# Altium footprint library ARCOM_Capacitors.PcbLib: 37 footprints (part 2 of 3)
Each footprint in its own frame and in the unit in brackets; x right, y up, seen from the top. Pads: shape width x height; smd on the part's side, far side on the other; paste and mask are expansions set on the pad; w line width, h text height; cw(c..) or ccw(c..) is an arc to the next point about the centre after c.
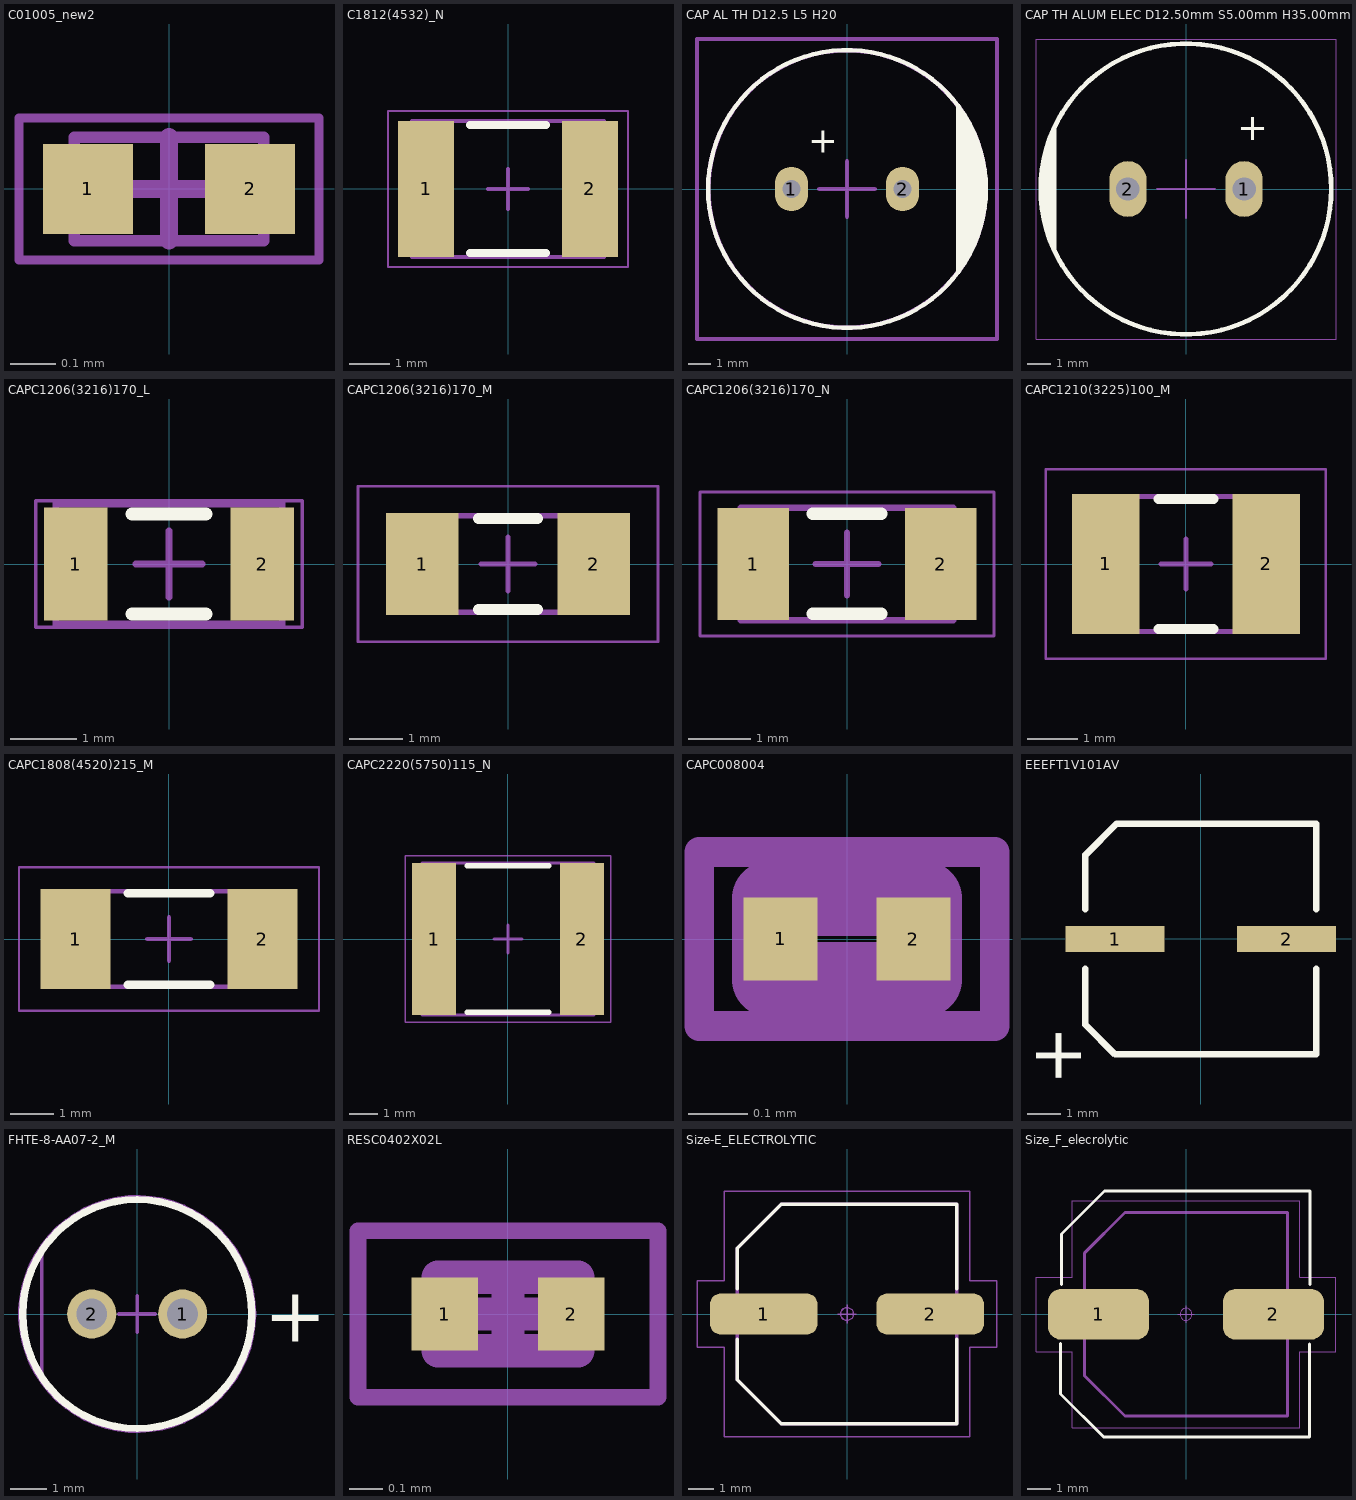
[diagram p1: the footprints below, top view; thin cyan lines are the x and y axes]

## C01005_new2 [mm] "Chip Capacitor, 2-Leads, Body 0,40x0,20mm, IPC High Density"
height 0.15
pads (2):
  rect 0.2x0.2 smd mask+0.05: 1(-0.18,0) 2(0.18,0)
Mechanical 13:
  lines w0.025: -0.21,-0.115 -0.21,0.115 0.21,0.115 0.21,-0.115 -0.21,-0.115
Mechanical 15:
  lines w0.02: -0.333,-0.157 -0.333,0.157 0.333,0.157 0.333,-0.157 -0.333,-0.157
  lines w0.04: -0.115,0 0.115,0 ; 0,-0.115 0,0.115
3D body: height 0.15, standoff 0, extent -0.11,-0.115 0.11,0.115
3D body: height 0.15, standoff 0, extent -0.21,-0.115 -0.11,0.115
3D body: height 0.15, standoff 0, extent 0.11,-0.115 0.21,0.115

## C1812(4532)_N [mm]
pads (2):
  rect 1.4x3.4 smd: 1(-2.053,-0.003) 2(2.047,-0.003)
Top Overlay:
  lines w0.2: -0.953,-1.603 0.947,-1.603 ; -0.953,1.597 0.947,1.597
Mechanical 13:
  lines w0.1: -2.403,-1.703 -2.403,1.697 2.397,1.697 2.397,-1.703 -2.403,-1.703
Mechanical 15:
  lines w0.05: -3.003,-1.953 -3.003,1.947 2.997,1.947 2.997,-1.953 -3.003,-1.953
  lines w0.1: -0.503,-0.003 0.497,-0.003 ; -0.003,-0.503 -0.003,0.497
3D body: height 2.3, standoff 0, extent -1.803,-1.703 1.797,1.697
3D body: height 2.3, standoff 0, extent -2.403,-1.703 -1.803,1.697
3D body: height 2.3, standoff 0, extent 1.797,-1.703 2.397,1.697

## CAP AL TH D12.5 L5 H20 [mm] "12.5MM Diameter, 5MM Lead Spacing Aluminium Capacitor"
height 20
pads (2):
  oval 1.5x2 hole 0.8: 1(-2.5,0) 2(2.5,0)
Top Overlay:
  circle w0.2: c0,0 r6.25
  region: 5,-3.75 5,3.75 5.75,2.5 6.25,1 6.25,0 6,-1.5 5.75,-2.5
  lines w0.2: 5,-3.75 5,3.75
  text "+" at -1.75,1.25 h2
Mechanical 13:
  circle w0.2: c0,0 r6.241
  lines w0.2: 5,-3.75 5,3.75
Mechanical 15:
  lines w0.2: -1.25,0 1.25,0 ; 0,-1.25 0,1.25 ; -6.75,-6.75 -6.75,0 -6.75,6.75 0,6.75 6.75,6.75 6.75,0 6.75,-6.75 0,-6.75 -6.75,-6.75
3D body "CAP ALTH D-12.5MM L-5.0MM H-20MM.STEP": height 20.2, standoff -3, extent -6.25,-6.245 6.25,6.246

## CAP TH ALUM ELEC D12.50mm S5.00mm H35.00mm [mm] "12.5mm Diameter 5mm Lead Spacing Aluminum Electrolytic Capacitors Radial, Can"
height 35
pads (2):
  oval 1.6x2.4 hole 1: 1(2.5,0) 2(-2.5,0)
Top Overlay:
  circle w0.2: c0,0 r6.25
  region: -5.664,-2.641 -5.809,-2.332 -6.028,-1.686 -6.176,-1.02 -6.25,-0.341 -6.25,0.341 -6.176,1.02 -6.028,1.686 -5.809,2.332 -5.664,2.641
  lines w0.2: -5.664,-2.641 cw(c0,0) -5.664,2.641 -5.664,-2.641
  text "+" at 2.2,1.7 h2
Mechanical 13:
  circle w0.1: c0,0 r6.25
  lines w0.1: -5.664,-2.641 -5.664,2.641
Mechanical 15:
  lines w0.05: -6.45,-6.45 -6.45,6.45 6.45,6.45 6.45,-6.45 -6.45,-6.45
  lines w0.1: -1.25,0 0,0 ; 0,-1.25 0,0 ; 0,1.25 0,0 ; 1.25,0 0,0
3D body "Cap TH D12.50mm H35.00mm L5.00mm.step": height 35, standoff -2.5, extent -6.257,-6.25 6.25,6.25

## CAPC1206(3216)170_L [mm] "Chip Capacitor, Body 3.2x1.6mm, Height 1.7mm, IPC High Density"
height 1.7
pads (2):
  rect 0.95x1.7 smd: 1(-1.4,0) 2(1.4,0)
Top Overlay:
  lines w0.2: -0.55,-0.75 0.55,-0.75 ; -0.55,0.75 0.55,0.75
Mechanical 13:
  lines w0.1: -1.7,-0.9 1.7,-0.9 1.7,0.9 -1.7,0.9 -1.7,-0.9
Mechanical 15:
  lines w0.05: -2,-0.95 2,-0.95 2,0.95 -2,0.95 -2,-0.95
  lines w0.1: -0.5,0 0.5,0 ; 0,-0.5 0,0.5
3D body: height 1.7, standoff 0, extent 1.2,-0.9 1.7,0.9
3D body: height 1.7, standoff 0, extent -1.7,-0.9 -1.2,0.9
3D body: height 1.7, standoff 0, extent -1.2,-0.9 1.2,0.9

## CAPC1206(3216)170_M [mm] "Chip Capacitor, Body 3.2x1.6mm, Height 1.7mm, IPC Low Density"
height 1.7
pads (2):
  rect 1.35x1.9 smd: 1(-1.6,0) 2(1.6,0)
Top Overlay:
  lines w0.2: -0.55,-0.85 0.55,-0.85 ; -0.55,0.85 0.55,0.85
Mechanical 13:
  lines w0.1: -1.7,-0.9 1.7,-0.9 1.7,0.9 -1.7,0.9 -1.7,-0.9
Mechanical 15:
  lines w0.05: -2.8,-1.45 2.8,-1.45 2.8,1.45 -2.8,1.45 -2.8,-1.45
  lines w0.1: -0.5,0 0.5,0 ; 0,-0.5 0,0.5
3D body: height 1.7, standoff 0, extent 1.2,-0.9 1.7,0.9
3D body: height 1.7, standoff 0, extent -1.7,-0.9 -1.2,0.9
3D body: height 1.7, standoff 0, extent -1.2,-0.9 1.2,0.9

## CAPC1206(3216)170_N [mm] "Chip Capacitor, Body 3.2x1.6mm, Height 1.7mm, IPC Medium Density"
height 1.7
pads (2):
  rect 1.15x1.8 smd: 1(-1.5,0) 2(1.5,0)
Top Overlay:
  lines w0.2: -0.55,-0.8 0.55,-0.8 ; -0.55,0.8 0.55,0.8
Mechanical 13:
  lines w0.1: -1.7,-0.9 1.7,-0.9 1.7,0.9 -1.7,0.9 -1.7,-0.9
Mechanical 15:
  lines w0.05: -2.35,-1.15 2.35,-1.15 2.35,1.15 -2.35,1.15 -2.35,-1.15
  lines w0.1: -0.5,0 0.5,0 ; 0,-0.5 0,0.5
3D body: height 1.7, standoff 0, extent 1.2,-0.9 1.7,0.9
3D body: height 1.7, standoff 0, extent -1.7,-0.9 -1.2,0.9
3D body: height 1.7, standoff 0, extent -1.2,-0.9 1.2,0.9

## CAPC1210(3225)100_M [mm] "Chip Capacitor, Body 3.2x2.5mm, Height 1mm, IPC Low Density"
height 1
pads (2):
  rect 1.35x2.8 smd: 1(-1.6,0) 2(1.6,0)
Top Overlay:
  lines w0.2: -0.55,-1.3 0.55,-1.3 ; -0.55,1.3 0.55,1.3
Mechanical 13:
  lines w0.1: -1.7,-1.35 1.7,-1.35 1.7,1.35 -1.7,1.35 -1.7,-1.35
Mechanical 15:
  lines w0.05: -2.8,-1.9 2.8,-1.9 2.8,1.9 -2.8,1.9 -2.8,-1.9
  lines w0.1: -0.5,0 0.5,0 ; 0,-0.5 0,0.5
3D body: height 1, standoff 0, extent 1.2,-1.35 1.7,1.35
3D body: height 1, standoff 0, extent -1.7,-1.35 -1.2,1.35
3D body: height 1, standoff 0, extent -1.2,-1.35 1.2,1.35

## CAPC1808(4520)215_M [mm] "Chip Capacitor, Body 4.5x2.0mm, Height 2.15mm, IPC Low Density"
height 2.15
pads (2):
  rect 1.6x2.3 smd: 1(-2.15,0) 2(2.15,0)
Top Overlay:
  lines w0.2: -0.95,-1.05 0.95,-1.05 ; -0.95,1.05 0.95,1.05
Mechanical 13:
  lines w0.1: -2.6,-1.1 -2.6,1.1 2.6,1.1 2.6,-1.1 -2.6,-1.1
Mechanical 15:
  lines w0.05: -3.45,-1.65 -3.45,1.65 3.45,1.65 3.45,-1.65 -3.45,-1.65
  lines w0.1: -0.5,0 0.5,0 ; 0,-0.5 0,0.5
3D body: height 2.15, standoff 0, extent -2,-1.1 2,1.1
3D body: height 2.15, standoff 0, extent -2.6,-1.1 -2,1.1
3D body: height 2.15, standoff 0, extent 2,-1.1 2.6,1.1

## CAPC2220(5750)115_N [mm] "Chip Capacitor, Body 5.7x5.0mm, Height 1.15mm, IPC Medium Density"
height 1.15
pads (2):
  rect 1.55x5.4 smd: 1(-2.625,0) 2(2.625,0)
Top Overlay:
  lines w0.2: -1.45,-2.6 1.45,-2.6 ; -1.45,2.6 1.45,2.6
Mechanical 13:
  lines w0.1: -3.05,-2.7 3.05,-2.7 3.05,2.7 -3.05,2.7 -3.05,-2.7
Mechanical 15:
  lines w0.05: -3.65,-2.95 3.65,-2.95 3.65,2.95 -3.65,2.95 -3.65,-2.95
  lines w0.1: -0.5,0 0.5,0 ; 0,-0.5 0,0.5
3D body: height 1.15, standoff 0, extent 2.45,-2.7 3.05,2.7
3D body: height 1.15, standoff 0, extent -3.05,-2.7 -2.45,2.7
3D body: height 1.15, standoff 0, extent -2.45,-2.7 2.45,2.7

## CAPC008004 [mm]
pads (2):
  rect 0.125x0.14 smd mask+0.102: 1(-0.112,0) 2(0.112,0)
Mechanical 13:
  lines w0.127: -0.132,-0.069 0.132,-0.069 0.132,0.069 -0.132,0.069 -0.132,-0.069
Mechanical 15:
  lines w0.05: -0.251,-0.147 0.251,-0.147 0.251,0.147 -0.251,0.147 -0.251,-0.147
3D body "TMK021CG0R2BK-W.STEP": height 0.14, standoff 0, extent -0.125,-0.062 0.125,0.062

## EEEFT1V101AV [mm]
pads (2):
  rect 3x0.8 smd: 1(-2.599,-0.001) 2(2.601,-0.001)
Top Overlay:
  lines w0.2: -3.499,-0.901 -3.499,-2.601 -2.599,-3.501 3.501,-3.501 3.501,-0.901 ; -3.499,0.899 -3.499,2.549 -2.549,3.499 3.501,3.499 3.501,0.899
  text "+" at -4.999,-2.626 h1.59
3D body "User Library-6_3x7_7.sldprt": height 8, standoff 0, extent -3.78,-3.292 3.82,3.308

## FHTE-8-AA07-2_M [mm] "Through Hole Cap, 2-Leads, Dia 6.3mm, Body Length 7mm, IPC Low Density"
height 7
pads (2):
  round 1.35 hole 0.85: 1(1.25,0) 2(-1.25,0)
Top Overlay:
  circle w0.2: c0,0 r3.15
  text "+" at 3.5,-0.762 h1.5
Mechanical 13:
  circle w0.1: c0,0 r3.15
  lines w0.1: -2.621,-1.747 -2.621,1.747
Mechanical 15:
  circle w0.05: c0,0 r3.25
  lines w0.1: -0.5,0 0.5,0 ; 0,-0.5 0,0.5
3D body: height 7, standoff 0, extent -2.621,-3.156 3.151,3.156
3D body: height 7, standoff 0, extent -3.151,-1.748 -2.62,1.748
3D body: height 0, standoff -2, extent 1.002,-0.249 1.5,0.25
3D body: height 0, standoff -2, extent -1.498,-0.249 -1,0.25

## RESC0402X02L [mm] "Chip Resistor, 2-Leads, Body 0,40x0,20mm, IPC High Density"
height 0.15
pads (2):
  rect 0.2x0.22 smd: 1(-0.19,0) 2(0.19,0)
Mechanical 13:
  lines w0.1: -0.21,-0.11 0.21,-0.11 0.21,0.11 -0.21,0.11 -0.21,-0.11
Mechanical 15:
  lines w0.05: -0.45,-0.25 0.45,-0.25 0.45,0.25 -0.45,0.25 -0.45,-0.25
  lines w0.1: -0.11,0 0.11,0 ; 0,-0.11 0,0.11
3D body: height 0.15, standoff 0, extent 0.11,-0.11 0.21,0.11
3D body: height 0.15, standoff 0, extent -0.21,-0.11 -0.11,0.11
3D body: height 0.15, standoff 0, extent -0.11,-0.11 0.11,0.11

## Size-E_ELECTROLYTIC [mm]
pads (2):
  rrect50% 4.16x1.58 smd paste-25.4 mask-25.4: 1(-3.225,0) 2(3.225,0)
Top Overlay:
  lines w0.12: -4.25,-0.97 -4.25,-2.55 -2.55,-4.25 4.25,-4.25 4.25,-0.97 ; -4.25,0.97 -4.25,2.55 -2.55,4.25 4.25,4.25 4.25,0.97
Top Paste:
  region: 1.54,0.798 1.386,0.767 1.255,0.68 1.168,0.549 1.137,0.395 1.137,-0.395 1.168,-0.549 1.255,-0.68 1.386,-0.767 1.54,-0.798 4.91,-0.798 5.064,-0.767 5.195,-0.68 5.282,-0.549 5.313,-0.395 5.313,0.395 5.282,0.549 5.195,0.68 5.064,0.767 4.91,0.798
  region: -4.91,0.798 -5.064,0.767 -5.195,0.68 -5.282,0.549 -5.313,0.395 -5.313,-0.395 -5.282,-0.549 -5.195,-0.68 -5.064,-0.767 -4.91,-0.798 -1.54,-0.798 -1.386,-0.767 -1.255,-0.68 -1.168,-0.549 -1.137,-0.395 -1.137,0.395 -1.168,0.549 -1.255,0.68 -1.386,0.767 -1.54,0.798
Top Solder:
  region: 1.54,0.798 1.386,0.767 1.255,0.68 1.168,0.549 1.137,0.395 1.137,-0.395 1.168,-0.549 1.255,-0.68 1.386,-0.767 1.54,-0.798 4.91,-0.798 5.064,-0.767 5.195,-0.68 5.282,-0.549 5.313,-0.395 5.313,0.395 5.282,0.549 5.195,0.68 5.064,0.767 4.91,0.798
  region: -4.91,0.798 -5.064,0.767 -5.195,0.68 -5.282,0.549 -5.313,0.395 -5.313,-0.395 -5.282,-0.549 -5.195,-0.68 -5.064,-0.767 -4.91,-0.798 -1.54,-0.798 -1.386,-0.767 -1.255,-0.68 -1.168,-0.549 -1.137,-0.395 -1.137,0.395 -1.168,0.549 -1.255,0.68 -1.386,0.767 -1.54,0.798
Mechanical 1:
  lines w0.12: -4.25,-2.55 -4.25,2.55 -2.55,4.25 4.25,4.25 4.25,-4.25 -2.55,-4.25 -4.25,-2.55
Mechanical 16:
  circle w0.05: c0,0 r0.25
  lines w0.05: -0.35,0 0.35,0 ; 0,-0.35 0,0.35 ; -5.81,-1.29 -4.75,-1.29 -4.75,-4.75 4.75,-4.75 4.75,-1.29 5.81,-1.29 5.81,1.29 4.75,1.29 4.75,4.75 -4.75,4.75 -4.75,1.29 -5.81,1.29 -5.81,-1.29
3D body "User Library-AL_EL_cap_8mmx10mm.STEP": height 10.5, standoff 0, extent -4.842,-4.253 4.858,4.247

## Size_F_elecrolytic [mm]
pads (2):
  rrect50% 4.22x2.12 smd paste-25.4 mask-25.4: 1(-3.655,0) 2(3.655,0)
Top Overlay:
  lines w0.12: -5.243,-1.212 -5.243,-3.325 -3.437,-5.131 5.143,-5.131 ; -5.21,1.24 -5.21,3.353 -3.404,5.159 5.177,5.159 5.177,1.24 ; 5.159,-5.131 5.159,-1.24
Top Paste:
  region: -5.235,1.07 -5.442,1.029 -5.617,0.912 -5.734,0.737 -5.775,0.53 -5.775,-0.53 -5.734,-0.737 -5.617,-0.912 -5.442,-1.029 -5.235,-1.07 -2.075,-1.07 -1.868,-1.029 -1.693,-0.912 -1.576,-0.737 -1.535,-0.53 -1.535,0.53 -1.576,0.737 -1.693,0.912 -1.868,1.029 -2.075,1.07
  region: 2.075,1.07 1.868,1.029 1.693,0.912 1.576,0.737 1.535,0.53 1.535,-0.53 1.576,-0.737 1.693,-0.912 1.868,-1.029 2.075,-1.07 5.235,-1.07 5.442,-1.029 5.617,-0.912 5.734,-0.737 5.775,-0.53 5.775,0.53 5.734,0.737 5.617,0.912 5.442,1.029 5.235,1.07
Top Solder:
  region: -5.235,1.07 -5.442,1.029 -5.617,0.912 -5.734,0.737 -5.775,0.53 -5.775,-0.53 -5.734,-0.737 -5.617,-0.912 -5.442,-1.029 -5.235,-1.07 -2.075,-1.07 -1.868,-1.029 -1.693,-0.912 -1.576,-0.737 -1.535,-0.53 -1.535,0.53 -1.576,0.737 -1.693,0.912 -1.868,1.029 -2.075,1.07
  region: 2.075,1.07 1.868,1.029 1.693,0.912 1.576,0.737 1.535,0.53 1.535,-0.53 1.576,-0.737 1.693,-0.912 1.868,-1.029 2.075,-1.07 5.235,-1.07 5.442,-1.029 5.617,-0.912 5.734,-0.737 5.775,-0.53 5.775,0.53 5.734,0.737 5.617,0.912 5.442,1.029 5.235,1.07
Mechanical 1:
  lines w0.12: -4.25,-2.55 -2.55,-4.25 4.25,-4.25 4.25,4.25 -2.55,4.25 -4.25,2.55 -4.25,-2.55
Mechanical 16:
  circle w0.05: c0,0 r0.25
  lines w0.05: -0.35,0 0.35,0 ; 0,-0.35 0,0.35 ; -6.27,-1.56 -6.27,1.56 -4.75,1.56 -4.75,4.75 4.75,4.75 4.75,1.56 6.27,1.56 6.27,-1.56 4.75,-1.56 4.75,-4.75 -4.75,-4.75 -4.75,-1.56 -6.27,-1.56
3D body "User Library-Capacitor Electrolytic SMD.STEP": height 10.88, standoff 0.08, extent -5.53,-5.149 5.47,5.151